# Altium footprint library mypcblib.PcbLib: 128 footprints (part 2 of 8)
Each footprint in its own frame and in the unit in brackets; x right, y up, seen from the top. Pads: shape width x height; smd on the part's side, far side on the other; paste and mask are expansions set on the pad; w line width, h text height; cw(c..) or ccw(c..) is an arc to the next point about the centre after c.
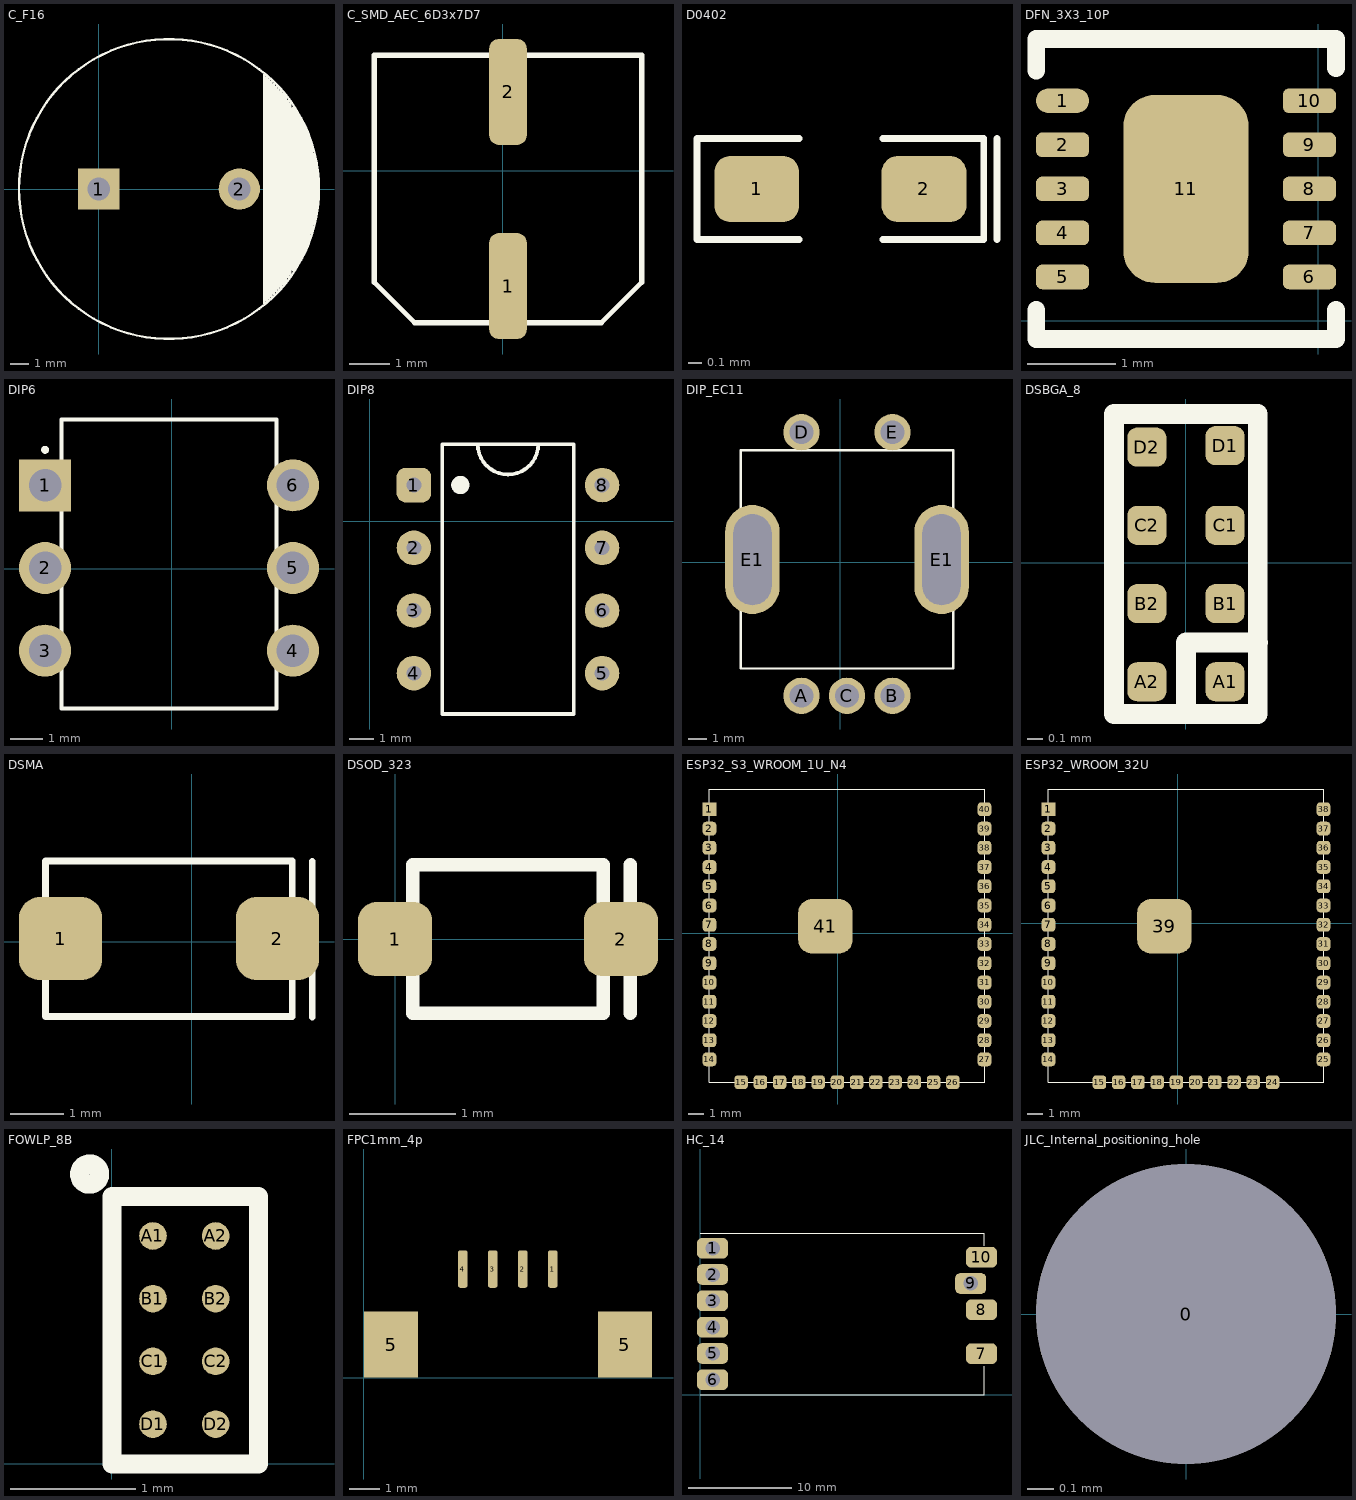
[diagram p1: the footprints below, top view; thin cyan lines are the x and y axes]

## C_F16 [mm]
pads (2):
  rect 2.2x2.2 hole 1.2: 1(0,0)
  round 2.2 hole 1.2: 2(7.5,0)
Top Overlay:
  circle w0.127: c3.75,0 r8
  lines w0.127: 8.83,-6.096 8.83,5.461 8.83,6.096 ; 8.957,-5.969 8.957,5.969 ; 9.084,-5.842 9.084,5.842 ; 9.211,-5.715 9.211,5.715 ; 9.338,-5.588 9.338,5.588 ; 9.465,-5.461 9.465,5.461 ; 9.592,-5.334 9.592,5.334 ; 9.719,-5.207 9.719,5.207 ; 9.846,-5.08 9.846,5.08 ; 9.973,-4.953 9.973,4.953 ; 10.1,-4.699 10.1,4.699 ; 10.227,-4.572 10.227,4.572 ; 10.354,-4.318 10.354,4.318 ; 10.481,-4.318 10.481,4.318 ; 10.608,-4.064 10.608,4.064 ; 10.735,-3.861 10.735,3.861 ; 10.862,-3.658 10.862,3.607 ; 10.99,-3.353 10.998,3.353 ; 11.118,-3.073 11.125,3.048 ; 11.243,-2.769 11.243,2.769 ; 11.328,-2.362 11.37,-2.321 11.37,2.413 ; 11.497,-1.905 11.497,1.88 ; 11.582,-1.295 11.624,-1.254 11.624,1.397

## C_SMD_AEC_6D3x7D7 [mm]
pads (2):
  rrect50% 0.927x2.613 smd: 1(0.131,-2.848) 2(0.131,1.939)
Top Overlay:
  lines w0.127: -3.169,-2.755 -2.169,-3.755 2.431,-3.755 3.431,-2.755 3.431,2.845 -3.169,2.845 -3.169,-2.755

## D0402 [mm]
pads (2):
  rrect50% 0.64x0.5 smd mask+0.076: 1(-2.61,-5.38) 2(-1.35,-5.38)
Top Overlay:
  lines w0.05: -2.291,-5.76 -3.06,-5.76 -3.06,-5 -2.291,-5 ; -1.661,-5.76 -0.9,-5.76 -0.9,-5 -1.661,-5 ; -0.8,-5.76 -0.8,-5
3D body "User Library-CR1005-0402.STEP": height 0.35, standoff 0, extent -2.48,-5.63 -1.48,-5.13

## DFN_3X3_10P [mm]
pads (11):
  oval 0.603x0.279 smd mask+0.051: 1(-2.902,2.5)
  rrect50% 0.603x0.279 smd mask+0.051: 2(-2.902,2) 3(-2.902,1.5) 4(-2.902,1) 5(-2.902,0.5) 6(-0.098,0.5) 7(-0.098,1) 8(-0.098,1.5) 9(-0.098,2) 10(-0.098,2.5)
  rrect50% 1.422x2.134 smd mask+0.152: 11(-1.5,1.5)
Top Overlay:
  lines w0.203: -3.2,0.127 -3.2,-0.203 0.203,-0.203 0.203,0.127 ; -3.2,2.845 -3.2,3.2 0.203,3.2 0.203,2.87
  text "." at -3.607,2.362 h3.05

## DIP6 [mm]
pads (6):
  rect 1.6x1.6 hole 1: 1(-3.901,2.568)
  round 1.6 hole 1: 2(-3.901,0.028) 3(-3.901,-2.512) 4(3.719,-2.512) 5(3.719,0.028) 6(3.719,2.568)
Top Overlay:
  circle w0.127: c-3.9,3.66 r0.058
  lines w0.127: -3.391,-4.295 -3.391,4.595 3.209,4.595 3.209,-4.295 -3.391,-4.295
3D body "CircuitWorks-DIP6.STEP": height 4.31, standoff -3.28, extent -4.1,-4.02 3.9,4.06

## DIP8 [mm]
pads (8):
  rrect50% 1.4x1.4 hole 0.6: 1(1.778,1.473)
  round 1.4 hole 0.6: 2(1.778,-1.067) 3(1.778,-3.607) 4(1.778,-6.147) 5(9.398,-6.147) 6(9.398,-3.607) 7(9.398,-1.067) 8(9.398,1.473)
Top Overlay:
  circle w0.381: c3.658,1.473 r0.18
  lines w0.152: 4.362,3.124 ccw(c5.588,3.124) 6.814,3.124 ; 2.921,-7.798 8.255,-7.798 8.255,3.124 2.921,3.124 2.921,-7.798

## DIP_EC11 [mm]
pads (7):
  round 2 hole 1.3: A(-2.121,-7.345) B(2.879,-7.345) C(0.379,-7.345) D(-2.121,7.155) E(2.879,7.155)
  oval 3x6 hole 2.1 slot 5 at 90 deg: E1(-4.82,0.15) E1(5.58,0.15)
Top Overlay:
  lines w0.127: -5.471,-5.845 6.229,-5.845 6.229,6.155 -5.471,6.155 -5.471,-5.845
3D body "User Library-EC11B15244.STP": height 31.6, standoff -3.47, extent -6.177,-7.515 6.917,7.61

## DSBGA_8 [mm]
pads (8):
  rrect50% 0.25x0.25 smd mask+0.076: A1(0.25,-0.76) A2(-0.25,-0.76) B1(0.25,-0.26) B2(-0.25,-0.26) C1(0.25,0.24) C2(-0.25,0.24) D1(0.25,0.75) D2(-0.25,0.74)
Top Overlay:
  lines w0.127: 0,-0.966 0,-0.51 0.46,-0.51 ; -0.459,-0.966 0.459,-0.966 0.459,0.952 -0.459,0.952 -0.459,-0.966

## DSMA [mm]
pads (2):
  rrect50% 1.55x1.55 smd: 1(-2.44,0.06) 2(1.6,0.06)
Top Overlay:
  lines w0.127: 2.25,-1.4 2.25,1.5 ; -2.722,-1.391 -2.722,1.505 1.875,1.505 1.875,-1.391 -2.722,-1.391
3D body "User Library-DO-214AC SMA.STEP": height 2.4, standoff 0, extent -3.04,-1.23 2.16,1.37

## DSOD_323 [mm]
pads (2):
  rrect50% 0.7x0.7 smd: 1(0,0) 2(2.13,0)
Top Overlay:
  lines w0.127: 2.22,-0.7 2.22,0.7 ; 0.164,-0.699 1.964,-0.699 1.964,0.701 0.164,0.701 0.164,-0.699
3D body "User Library-SOD-323.STEP": height 1.1, standoff 0, extent -0.21,-0.685 2.39,0.665

## ESP32_S3_WROOM_1U_N4 [mm]
pads (41):
  rect 0.9x0.9 smd: 1(-8.47,8.17)
  rrect50% 0.9x0.9 smd: 2(-8.47,6.9) 3(-8.47,5.63) 4(-8.47,4.36) 5(-8.47,3.09) 6(-8.47,1.82) 7(-8.47,0.55) 8(-8.47,-0.72) 9(-8.47,-1.99) 10(-8.47,-3.26) 11(-8.47,-4.53) 12(-8.47,-5.8) 13(-8.47,-7.07) 14(-8.47,-8.34) 15(-6.38,-9.84) 16(-5.11,-9.84) 17(-3.84,-9.84) 18(-2.57,-9.84) 19(-1.3,-9.84) 20(-0.03,-9.84) 21(1.24,-9.84) 22(2.51,-9.84) 23(3.78,-9.84) 24(5.05,-9.84) 25(6.32,-9.84) 26(7.59,-9.84) 27(9.68,-8.34) 28(9.68,-7.07) 29(9.68,-5.8) 30(9.68,-4.53) 31(9.68,-3.26) 32(9.68,-1.99) 33(9.68,-0.72) 34(9.68,0.55) 35(9.68,1.82) 36(9.68,3.09) 37(9.68,4.36) 38(9.68,5.63) 39(9.68,6.9) 40(9.68,8.17)
  rrect50% 3.6x3.6 smd: 41(-0.82,0.45)
Top Overlay:
  lines w0.08: -8.47,-9.84 9.68,-9.84 9.68,9.51 -8.47,9.51 -8.47,-9.84

## ESP32_WROOM_32U [mm]
pads (39):
  rect 0.9x0.9 smd: 1(-8.54,7.53)
  rrect50% 0.9x0.9 smd: 2(-8.54,6.26) 3(-8.54,4.99) 4(-8.54,3.72) 5(-8.54,2.45) 6(-8.54,1.18) 7(-8.54,-0.09) 8(-8.54,-1.36) 9(-8.54,-2.63) 10(-8.54,-3.9) 11(-8.54,-5.17) 12(-8.54,-6.44) 13(-8.54,-7.71) 14(-8.54,-8.98) 15(-5.18,-10.48) 16(-3.91,-10.48) 17(-2.64,-10.48) 18(-1.37,-10.48) 19(-0.1,-10.48) 20(1.17,-10.48) 21(2.44,-10.48) 22(3.71,-10.48) 23(4.98,-10.48) 24(6.25,-10.48) 25(9.61,-8.98) 26(9.61,-7.71) 27(9.61,-6.44) 28(9.61,-5.17) 29(9.61,-3.9) 30(9.61,-2.63) 31(9.61,-1.36) 32(9.61,-0.09) 33(9.61,1.18) 34(9.61,2.45) 35(9.61,3.72) 36(9.61,4.99) 37(9.61,6.26) 38(9.61,7.53)
  rrect50% 3.6x3.6 smd: 39(-0.89,-0.19)
Top Overlay:
  lines w0.08: -8.54,-10.48 -8.54,8.87 9.61,8.87 9.61,-10.48 -8.54,-10.48

## FOWLP_8B [mm]
pads (8):
  round 0.22 smd mask+0.051: A1(0.327,1.818) A2(0.827,1.818) B1(0.327,1.318) B2(0.827,1.318) C1(0.327,0.818) C2(0.827,0.818) D1(0.327,0.318) D2(0.827,0.318)
Top Overlay:
  circle w0.152: c-0.178,2.311 r0.08
  lines w0.152: 0,0 0,2.134 1.168,2.134 1.168,0 0,0

## FPC1mm_4p [mm]
pads (6):
  rrect50% 0.315x1.25 smd: 1(6.3,3.625) 2(5.3,3.625) 3(4.3,3.625) 4(3.3,3.625)
  rect 1.8x2.2 smd: 5(0.91,1.105) 5(8.71,1.105)

## HC_14 [mm]
pads (10):
  rrect50% 3x2 hole 1.4: 1(1.17,14.17) 2(1.17,11.63) 3(1.17,9.09) 4(1.17,6.55) 5(1.17,4.01) 6(1.17,1.47) 9(26.1,10.77)
  rrect50% 3x2 smd: 7(27.14,3.99) 8(27.14,8.23) 10(27.14,13.31)
Top Overlay:
  lines w0.064: 0,0 27.4,0 27.4,2.795 ; 0,15.6 27.4,15.6 27.4,14.43

## JLC_Internal_positioning_hole [mm] "1.152*1.3"
pads (1):
  round 1.152 hole 1.152 paste+1.152 mask+0.148: 0(0,0)